# Altium footprint library HyTechDevices.PCBLIB: 209 footprints (part 12 of 14)
Each footprint in its own frame and in the unit in brackets; x right, y up, seen from the top. Pads: shape width x height; smd on the part's side, far side on the other; paste and mask are expansions set on the pad; w line width, h text height; cw(c..) or ccw(c..) is an arc to the next point about the centre after c.
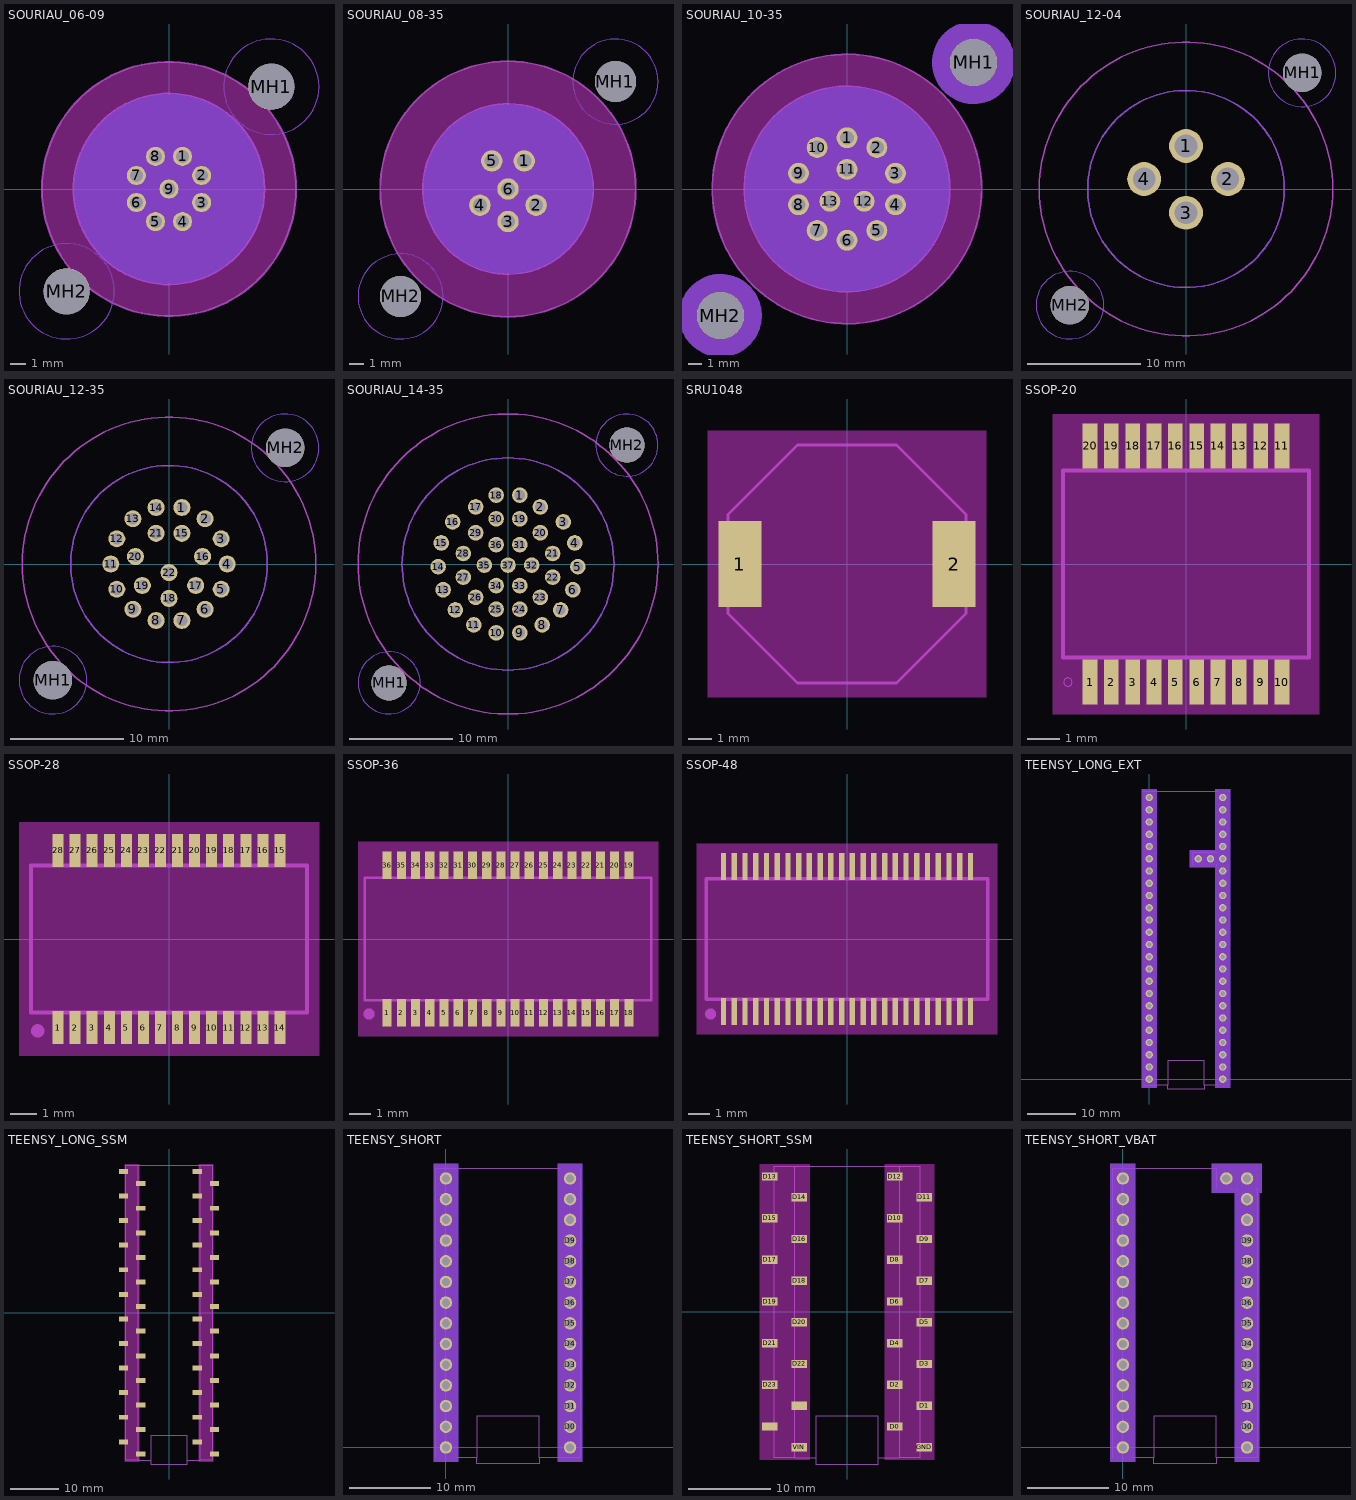
[diagram p11: the footprints below, top view; thin cyan lines are the x and y axes]

## SOURIAU_06-09 [mil]
pads (11):
  round 47.24 hole 31.5: 1(33.46,80.71) 2(80.71,33.46) 3(80.71,-33.46) 4(33.46,-80.71) 5(-33.46,-80.71) 6(-80.71,-33.46) 7(-80.71,33.46) 8(-33.46,80.71) 9(0,0)
  round 114.17 hole 114.17 unplated: MH1(253.33,253.33) MH2(-253.33,-253.33)
Top keep-out:
  circle w314.96: c0,0 r157.48
  circle w0: c253.33,253.33 r118.11
  circle w0: c253.33,253.33 r118.11
  circle w0: c-253.33,-253.33 r118.11
  circle w0: c-253.33,-253.33 r118.11
Bottom keep-out:
  circle w236.22: c0,0 r118.11
  circle w0: c253.33,253.33 r118.11
  circle w0: c253.33,253.33 r118.11
  circle w0: c-253.33,-253.33 r118.11
  circle w0: c-253.33,-253.33 r118.11
tPlace:
  circle w5: c0,0 r314.96
bPlace:
  circle w5: c0,0 r236.22

## SOURIAU_08-35 [mm]
pads (8):
  round 1.508 hole 1: 1(1.14,1.98) 2(1.98,-1.14) 3(0,-2.29) 4(-1.98,-1.14) 5(-1.14,1.98) 6(0,0)
  round 2.9 hole 2.9 unplated: MH1(7.566,7.566) MH2(-7.566,-7.566)
Top keep-out:
  circle w9: c0,0 r4.5
  circle w0: c7.566,7.566 r3
  circle w0: c7.566,7.566 r3
  circle w0: c-7.566,-7.566 r3
  circle w0: c-7.566,-7.566 r3
Bottom keep-out:
  circle w6: c0,0 r3
  circle w0: c7.566,7.566 r3
  circle w0: c7.566,7.566 r3
  circle w0: c-7.566,-7.566 r3
  circle w0: c-7.566,-7.566 r3
tPlace:
  circle w0.127: c0,0 r9
bPlace:
  circle w0.127: c0,0 r6

## SOURIAU_10-35 [mm]
pads (15):
  round 1.508 hole 1: 1(0,3.71) 2(2.16,3) 3(3.51,1.14) 4(3.51,-1.14) 5(2.16,-3) 6(0,-3.71) 7(-2.16,-3) 8(-3.51,-1.14) 9(-3.51,1.14) 10(-2.16,3) 11(0,1.42) 12(1.24,-0.89) 13(-1.24,-0.89)
  round 3.4 hole 3.4 unplated: MH1(9.157,9.157) MH2(-9.157,-9.157)
Top keep-out:
  circle w9.75: c0,0 r4.875
  circle w3: c9.157,9.157 r1.5
  circle w3: c-9.157,-9.157 r1.5
Bottom keep-out:
  circle w7.435: c0,0 r3.718
  circle w3: c9.157,9.157 r1.5
  circle w3: c-9.157,-9.157 r1.5
tPlace:
  circle w0.127: c0,0 r7.435
  circle w0.127: c0,0 r9.75

## SOURIAU_12-04 [mm]
pads (6):
  round 3 hole 2: 1(0,3.81) 2(3.708,0.889) 3(0,-2.108) 4(-3.708,0.889)
  round 3.4 hole 3.4 unplated: MH1(10.289,10.289) MH2(-10.289,-10.289)
Top keep-out:
  circle w0: c10.289,10.289 r3
  circle w0: c10.289,10.289 r3
  circle w0: c10.289,10.289 r3
  circle w0: c-10.289,-10.289 r3
  circle w0: c-10.289,-10.289 r3
  circle w0: c-10.289,-10.289 r3
  circle w0: c0,0 r13
Bottom keep-out:
  circle w0: c10.289,10.289 r3
  circle w0: c-10.289,-10.289 r3
  circle w0: c0,0 r8.72
  circle w0: c-10.289,-10.289 r3
  circle w0: c10.289,10.289 r3
tPlace:
  circle w0.127: c0,0 r13
bPlace:
  circle w0.127: c0,0 r8.72

## SOURIAU_12-35 [mil]
pads (24):
  round 59.37 hole 39.37: 1(45,197) 2(126,158) 3(182,88) 4(203,0) 5(182,-88) 6(126,-158) 7(45,-197) 8(-45,-197) 9(-126,-158) 10(-182,-88) 11(-203,0) 12(-182,88) 13(-126,158) 14(-45,197) 15(45,107) 16(117,26) 17(93,-75) 18(0,-120) 19(-93,-75) 20(-117,26) 21(-45,107) 22(0,-30)
  round 133.86 hole 133.86 unplated: MH1(-405.06,-405.06) MH2(405.06,405.06)
Top keep-out:
  circle w0: c-405.06,-405.06 r118.11
  circle w0: c-405.06,-405.06 r118.11
  circle w0: c405.06,405.06 r118.11
  circle w0: c405.06,405.06 r118.11
  circle w0: c0,0 r511.81
Bottom keep-out:
  circle w0: c-405.06,-405.06 r118.11
  circle w0: c-405.06,-405.06 r118.11
  circle w0: c405.06,405.06 r118.11
  circle w0: c405.06,405.06 r118.11
  circle w0: c0,0 r343.31
tPlace:
  circle w5: c0,0 r343.5
  circle w5: c0,0 r511.81

## SOURIAU_14-35 [mil]
pads (39):
  round 59.37 hole 39.37: 1(45,262) 2(123,217) 3(211,160) 4(254,80) 5(266,-10) 6(247,-98) 7(200,-175) 8(130,-232) 9(45,-262) 10(-45,-262) 11(-130,-232) 12(-200,-175) 13(-247,-98) 14(-266,-10) 15(-254,80) 16(-211,160) 17(-123,217) 18(-45,262) 19(45,172) 20(123,119) 21(170,40) 22(170,-50) 23(123,-127) 24(45,-172) 25(-45,-172) 26(-123,-127) 27(-170,-50) 28(-170,40) 29(-123,119) 30(-45,172) 31(45,74) 32(90,-4) 33(45,-82) 34(-45,-82) 35(-90,-4) 36(-45,74) 37(0,-4)
  round 133.86 hole 133.86 unplated: MH1(-452.38,-452.38) MH2(452.38,452.38)
Top keep-out:
  circle w0: c-452.38,-452.38 r118.11
  circle w0: c-452.38,-452.38 r118.11
  circle w0: c452.38,452.38 r118.11
  circle w0: c452.38,452.38 r118.11
  circle w0: c0,0 r570.87
Bottom keep-out:
  circle w0: c0,0 r403.54
  circle w0: c-452.38,-452.38 r118.11
  circle w0: c-452.38,-452.38 r118.11
  circle w0: c452.38,452.38 r118.11
  circle w0: c452.38,452.38 r118.11
tPlace:
  circle w5: c0,0 r570.87
bPlace:
  circle w5: c0,0 r403.54

## SRU1048 [mil]
pads (2):
  rect 70.87x141.73 smd: 1(-177.17,0) 2(177.17,0)
Top keep-out:
  region: -230,-220 -230,220 230,220 230,-220
tPlace:
  lines w5: -196.85,-81.69 -196.85,81.69 -81.69,196.85 81.69,196.85 196.85,81.69 196.85,-81.69 81.69,-196.85 -81.69,-196.85 -196.85,-81.69

## SSOP-20 [mil]
pads (20):
  rect 17.72x53.94 smd: 1(-115.16,-141.73) 2(-89.57,-141.73) 3(-63.98,-141.73) 4(-38.39,-141.73) 5(-12.8,-141.73) 6(12.8,-141.73) 7(38.39,-141.73) 8(63.98,-141.73) 9(89.57,-141.73) 10(115.16,-141.73) 11(115.16,141.73) 12(89.57,141.73) 13(63.98,141.73) 14(38.39,141.73) 15(12.8,141.73) 16(-12.8,141.73) 17(-38.39,141.73) 18(-63.98,141.73) 19(-89.57,141.73) 20(-115.16,141.73)
Top keep-out:
  region: -160,-180 -160,180 160,180 160,-180
tPlace:
  circle w0: c-141.73,-141.73 r5
  lines w5: -147.64,-112.2 147.64,-112.2 147.64,112.2 -147.64,112.2 -147.64,-112.2

## SSOP-28 [mil]
pads (28):
  rect 16.54x49.21 smd: 1(-166.34,-132.87) 2(-140.75,-132.87) 3(-115.16,-132.87) 4(-89.57,-132.87) 5(-63.98,-132.87) 6(-38.39,-132.87) 7(-12.8,-132.87) 8(12.8,-132.87) 9(38.39,-132.87) 10(63.98,-132.87) 11(89.57,-132.87) 12(115.16,-132.87) 13(140.75,-132.87) 14(166.34,-132.87) 15(166.34,132.87) 16(140.75,132.87) 17(115.16,132.87) 18(89.57,132.87) 19(63.98,132.87) 20(38.39,132.87) 21(12.8,132.87) 22(-12.8,132.87) 23(-38.39,132.87) 24(-63.98,132.87) 25(-89.57,132.87) 26(-115.16,132.87) 27(-140.75,132.87) 28(-166.34,132.87)
Top keep-out:
  region: -225,-175 -225,175 225,175 225,-175
tPlace:
  circle w10: c-196.85,-137.8 r5
  lines w6: -206.69,-110.24 206.69,-110.24 206.69,110.24 -206.69,110.24 -206.69,-110.24

## SSOP-36 [mm]
pads (36):
  rect 0.42x1.25 smd: 1(-5.525,-3.375) 2(-4.875,-3.375) 3(-4.225,-3.375) 4(-3.575,-3.375) 5(-2.925,-3.375) 6(-2.275,-3.375) 7(-1.625,-3.375) 8(-0.975,-3.375) 9(-0.325,-3.375) 10(0.325,-3.375) 11(0.975,-3.375) 12(1.625,-3.375) 13(2.275,-3.375) 14(2.925,-3.375) 15(3.575,-3.375) 16(4.225,-3.375) 17(4.875,-3.375) 18(5.525,-3.375) 19(5.525,3.375) 20(4.875,3.375) 21(4.225,3.375) 22(3.575,3.375) 23(2.925,3.375) 24(2.275,3.375) 25(1.625,3.375) 26(0.975,3.375) 27(0.325,3.375) 28(-0.325,3.375) 29(-0.975,3.375) 30(-1.625,3.375) 31(-2.275,3.375) 32(-2.925,3.375) 33(-3.575,3.375) 34(-4.225,3.375) 35(-4.875,3.375) 36(-5.525,3.375)
Top keep-out:
  region: -6.858,-4.445 -6.858,4.445 6.858,4.445 6.858,-4.445
tPlace:
  circle w0.254: c-6.35,-3.429 r0.127
  lines w0.127: -6.55,-2.8 6.55,-2.8 6.55,2.8 -6.55,2.8 -6.55,-2.8

## SSOP-48 [mil]
pads (48):
  rect 9.84x49.21 smd: 1(-226.38,-132.68) 2(-206.69,-132.68) 3(-187.01,-132.68) 4(-167.32,-132.68) 5(-147.64,-132.68) 6(-127.95,-132.68) 7(-108.27,-132.68) 8(-88.58,-132.68) 9(-68.9,-132.68) 10(-49.21,-132.68) 11(-29.53,-132.68) 12(-9.84,-132.68) 13(9.84,-132.68) 14(29.53,-132.68) 15(49.21,-132.68) 16(68.9,-132.68) 17(88.58,-132.68) 18(108.27,-132.68) 19(127.95,-132.68) 20(147.64,-132.68) 21(167.32,-132.68) 22(187.01,-132.68) 23(206.69,-132.68) 24(226.38,-132.68) 25(226.38,133.07) 26(206.69,133.07) 27(187.01,133.07) 28(167.32,133.07) 29(147.64,133.07) 30(127.95,133.07) 31(108.27,133.07) 32(88.58,133.07) 33(68.9,133.07) 34(49.21,133.07) 35(29.53,133.07) 36(9.84,133.07) 37(-9.84,133.07) 38(-29.53,133.07) 39(-49.21,133.07) 40(-68.9,133.07) 41(-88.58,133.07) 42(-108.27,133.07) 43(-127.95,133.07) 44(-147.64,133.07) 45(-167.32,133.07) 46(-187.01,133.07) 47(-206.69,133.07) 48(-226.38,133.07)
Top keep-out:
  region: -275,-175 -275,175 275,175 275,-175
tPlace:
  circle w10: c-250,-137.5 r5
  lines w6: -257.87,-110.24 257.87,-110.24 257.87,110.24 -257.87,110.24 -257.87,-110.24

## TEENSY_LONG_EXT [mil]
pads (50):
  round 60 hole 40: 3V3(0,200) 3V3@2(600,1400) 3V3@3(400,1800) AGND/GND(0,100) D0(600,100) D1(600,200) D2(600,300) D3(600,400) D4(600,500) D5(600,600) D6(600,700) D7(600,800) D8(600,900) D9(600,1000) D10(600,1100) D11(600,1200) D12(600,1300) D13(0,1300) D14(0,1200) D15(0,1100) D16(0,1000) D17(0,900) D18(0,800) D19(0,700) D20(0,600) D21(0,500) D22(0,400) D23(0,300) D24(600,1500) D25(600,1600) D26(600,1700) D27(600,1800) D28(600,1900) D29(600,2000) D30(600,2100) D31(600,2200) D32(600,2300) D33(0,2300) D34(0,2200) D35(0,2100) D36(0,2000) D37(0,1900) D38(0,1800) D39(0,1700) D40(0,1600) D41(0,1500) GND(600,0) GND@2(0,1400) VBAT(500,1800) VIN(0,0)
Top keep-out:
  region: -60,-70 -60,2370 60,2370 60,-70
  region: 540,-70 540,2370 660,2370 660,-70
  region: 330,1730 330,1870 570,1870 570,1730
Bottom keep-out:
  region: 540,-70 540,2370 660,2370 660,-70
  region: -60,-70 -60,2370 60,2370 60,-70
  region: 330,1730 330,1870 570,1870 570,1730
tPlace:
  lines w5: 50,-50 150,-50 ; 50,-50 -50,-50 -50,2350 50,2350 ; 50,-50 50,2350 ; 50,2350 550,2350 ; 150,-50 150,-80 450,-80 450,-50 ; 150,-50 150,150 450,150 450,-50 ; 450,-50 550,-50 ; 550,-50 650,-50 650,2350 550,2350 ; 550,-50 550,1750 ; 550,1750 550,1850 ; 550,1750 350,1750 350,1850 550,1850 ; 550,1850 550,2350
  text ">TEENSY" at 300,35 h68

## TEENSY_LONG_SSM [mil]
pads (48):
  rect 75x40.16 smd: 3.3V(-230,-950) 3.3V@1(370,250) AGND/GND(-370,-1050) D0(230,-1050) D1(370,-950) D2(230,-850) D3(370,-750) D4(230,-650) D5(370,-550) D6(230,-450) D7(370,-350) D8(230,-250) D9(370,-150) D10(230,-50) D11(370,50) D12(230,150) D13(-370,150) D14(-230,50) D15(-370,-50) D16(-230,-150) D17(-370,-250) D18(-230,-350) D19(-370,-450) D20(-230,-550) D21(-370,-650) D22(-230,-750) D23(-370,-850) D24(230,350) D25(370,450) D26(230,550) D27(370,650) D28(230,750) D29(370,850) D30(230,950) D31(370,1050) D32(230,1150) D33(-370,1150) D34(-230,1050) D35(-370,950) D36(-230,850) D37(-370,750) D38(-230,650) D39(-370,550) D40(-230,450) D41(-370,350) GND(370,-1150) GND@1(-230,250) VIN(-230,-1150)
Top keep-out:
  region: -360,-1210 -360,1210 -240,1210 -240,-1210
  region: 240,-1210 240,1210 360,1210 360,-1210
tPlace:
  lines w5: -250,-1200 -350,-1200 -350,1200 -250,1200 ; -250,-1200 -250,1200 ; -250,-1200 -150,-1200 ; -250,1200 250,1200 ; -150,-1200 -150,-1000 150,-1000 150,-1200 ; -150,-1200 -150,-1230 150,-1230 150,-1200 ; 150,-1200 250,-1200 ; 250,-1200 350,-1200 350,1200 250,1200 ; 250,-1200 250,1200
  text ">TEENSY" at 0,-1115 h68

## TEENSY_SHORT [mil]
pads (28):
  round 60 hole 40: 3.3V(0,200) AGND/GND(0,100) D0(600,100) D1(600,200) D2(600,300) D3(600,400) D4(600,500) D5(600,600) D6(600,700) D7(600,800) D8(600,900) D9(600,1000) D10(600,1100) D11(600,1200) D12(600,1300) D13(0,1300) D14(0,1200) D15(0,1100) D16(0,1000) D17(0,900) D18(0,800) D19(0,700) D20(0,600) D21(0,500) D22(0,400) D23(0,300) GND(600,0) VIN(0,0)
Top keep-out:
  region: -60,-70 -60,1370 60,1370 60,-70
  region: 540,-70 540,1370 660,1370 660,-70
Bottom keep-out:
  region: 540,-70 540,1370 660,1370 660,-70
  region: -60,-70 -60,1370 60,1370 60,-70
tPlace:
  lines w5: 50,-50 150,-50 ; 50,-50 -50,-50 -50,1350 50,1350 ; 50,-50 50,1350 ; 50,1350 550,1350 ; 150,-50 150,-80 450,-80 450,-50 ; 150,-50 150,150 450,150 450,-50 ; 450,-50 550,-50 ; 550,-50 650,-50 650,1350 550,1350 ; 550,-50 550,1350
  text ">TEENSY" at 300,35 h68

## TEENSY_SHORT_SSM [mil]
pads (28):
  rect 75x40.16 smd: 3.3V(-230,-450) AGND/GND(-370,-550) D0(230,-550) D1(370,-450) D2(230,-350) D3(370,-250) D4(230,-150) D5(370,-50) D6(230,50) D7(370,150) D8(230,250) D9(370,350) D10(230,450) D11(370,550) D12(230,650) D13(-370,650) D14(-230,550) D15(-370,450) D16(-230,350) D17(-370,250) D18(-230,150) D19(-370,50) D20(-230,-50) D21(-370,-150) D22(-230,-250) D23(-370,-350) GND(370,-650) VIN(-230,-650)
Top keep-out:
  region: -420,710 -180,710 -180,-710 -420,-710
  region: 180,710 420,710 420,-710 180,-710
tPlace:
  lines w5: -250,-700 -350,-700 -350,700 -250,700 ; -250,-700 -250,700 ; -250,-700 -150,-700 ; -250,700 250,700 ; -150,-700 -150,-500 150,-500 150,-700 ; -150,-700 -150,-730 150,-730 150,-700 ; 150,-700 250,-700 ; 250,-700 350,-700 350,700 250,700 ; 250,-700 250,700
  text ">TEENSY" at 0,-615 h68

## TEENSY_SHORT_VBAT [mil]
pads (29):
  round 60 hole 40: 3.3V(0,200) AGND/GND(0,100) D0(600,100) D1(600,200) D2(600,300) D3(600,400) D4(600,500) D5(600,600) D6(600,700) D7(600,800) D8(600,900) D9(600,1000) D10(600,1100) D11(600,1200) D12(600,1300) D13(0,1300) D14(0,1200) D15(0,1100) D16(0,1000) D17(0,900) D18(0,800) D19(0,700) D20(0,600) D21(0,500) D22(0,400) D23(0,300) GND(600,0) VBAT(500,1300) VIN(0,0)
Top keep-out:
  region: -60,-70 -60,1370 60,1370 60,-70
  region: 540,-70 540,1370 660,1370 660,-70
  region: 430,1230 430,1370 670,1370 670,1230
Bottom keep-out:
  region: 540,-70 540,1370 660,1370 660,-70
  region: -60,-70 -60,1370 60,1370 60,-70
  region: 430,1230 430,1370 670,1370 670,1230
tPlace:
  lines w5: 50,-50 150,-50 ; 50,-50 -50,-50 -50,1350 50,1350 ; 50,-50 50,1350 ; 50,1350 450,1350 ; 150,-50 150,-80 450,-80 450,-50 ; 150,-50 150,150 450,150 450,-50 ; 450,-50 550,-50 ; 450,1350 450,1250 550,1250 ; 450,1350 650,1350 650,1250 ; 550,-50 650,-50 650,1250 ; 550,-50 550,1250 ; 550,1250 650,1250
  text ">TEENSY" at 300,35 h68